# Altium schematic symbol library MCU_WCH_CH32X0.SchLib: 1 symbol
Pins are listed as number, name and electrical type; pins without a type are passive.

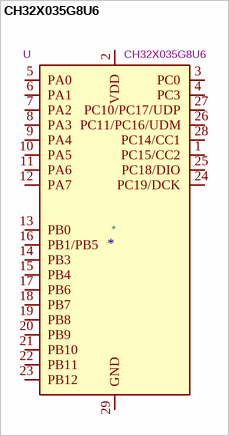
[diagram p0: symbol CH32X035G8U6]

## CH32X035G8U6
designator *  value CH32X035G8U6  Reference: U
48MHz RISC-V MCU with USB PD phy (Sink, Source, DRP), USB 2.0 Full speed phy (Host, Device), 20KB RAM, 62KB Flash, WQFN-28; ki_keywords: microcontroller WCH Type-C; ki_fp_filters: *QFN*4x4mm*P0.4mm*EP2.7x2.7*; Footprint: Package_DFN_QFN:WQFN-28-1EP_4x4mm_P0.4mm_EP2.7x2.7mm; Datasheet: https://www.wch-ic.com/downloads/CH32X035DS0_PDF.html; Description_: 48MHz RISC-V MCU with USB PD phy (Sink, Source, DRP), USB 2.0 Full speed phy (Host, Device), 20KB RAM, 62KB Flash, WQFN-28
pins: 1 PC15/CC2, 2 VDD, 3 PC0, 4 PC3, 5 PA0, 6 PA1, 7 PA2, 8 PA3, 9 PA4, 10 PA5, 11 PA6, 12 PA7, 13 PB0, 14 PB3, 15 PB4, 16 PB1/PB5, 17 PB6, 18 PB7, 19 PB8, 20 PB9, 21 PB10, 22 PB11, 23 PB12, 24 PC19/DCK, 25 PC18/DIO, 26 PC11/PC16/UDM, 27 PC10/PC17/UDP, 28 PC14/CC1, 29 GND